# Altium integrated library power_regulators.IntLib: 7 symbols
Pins are listed as number, name and electrical type; pins without a type are passive.

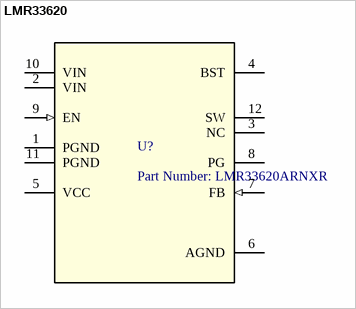
[diagram p0: symbol LMR33620]

## LMR33620
designator U?, comment Part Number: LMR33620ARNXR
SIMPLE SWITCHER® 3.8V to 36V, 2A Synchronous Buck Converter With Ultra-Low EMI; Manufacturer: Texas Instruments; PartNumber: LMR33620ARNXR; RefDes: RefDes; TYPE: TYPE; Value: Value
footprint RNX12 (RNX0012B)
pins: 1 PGND (power), 2 VIN (power), 3 NC, 4 BST, 5 VCC (power), 6 AGND (power), 7 FB (in), 8 PG (oc), 9 EN (in), 10 VIN (power), 11 PGND (power), 12 SW (power)


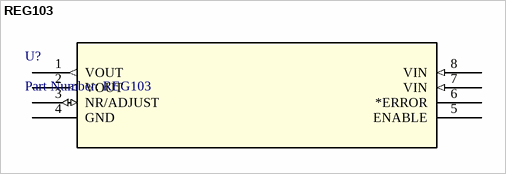
[diagram p1: symbol REG103]

## REG103
designator U?, comment Part Number: REG103
500-mA, 15-V, low-dropout voltage regulator with power good & enable; Manufacturer: Texas Instruments; Manufacturer_Part_Number: REG103UA-A/2K5; Built_By: EMA_UL_Team; Vendor: Texas Instruments; Copyright: Copyright (C) 2018 Accelerated Designs. All rights reserved; RefDes: RefDes; Type: DEV; Value: Value; ComponentLink1Description: Product Page; ComponentLink1URL: https://www.ti.com/product/REG103
footprint D8
footprint D8-L
footprint D8-M
pins: 1 VOUT (out), 2 VOUT (out), 3 NR/ADJUST (io), 4 GND (power), 5 ENABLE, 6 *ERROR, 7 VIN (in), 8 VIN (in)


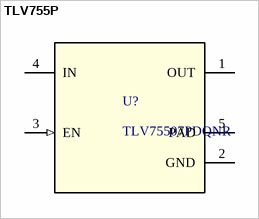
[diagram p2: symbol TLV755P]

## TLV755P
designator U?, comment TLV75507PDQNR
Fixed output, 500-mA, high-PSRR, low-IQ, low-dropout voltage regulator with enable; PartNumber: TLV75533PDQNR; Manufacturer: Texas Instruments; RefDes: RefDes; Type: DEV; Value: Value; Copyright: Copyright (C) 2018 Accelerated Designs. All rights reserved; ComponentLink1Description: Product Page; ComponentLink1URL: https://www.ti.com/product/TLV755P
footprint DQN0004A
pins: 1 OUT (power), 2 GND (power), 3 EN (in), 4 IN (power), 5 PAD


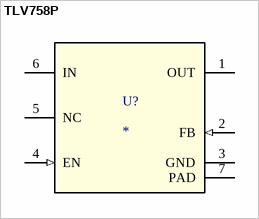
[diagram p3: symbol TLV758P]

## TLV758P
designator U?
500-mA, low-IQ, high-accuracy, adjustable ultra-low-dropout voltage regulator with enable; PartNumber: TLV75801PDRVR; Manufacturer: Texas Instruments; RefDes: RefDes; TYPE: TYPE; Value: Value; ComponentLink1Description: Product page; ComponentLink1URL: https://www.ti.com/product/TLV758P
footprint DRV_6A (DRV0006A)
footprint DRV_6A_NO_VIA (DRV0006A)
pins: 1 OUT (power), 2 FB (in), 3 GND (power), 4 EN (in), 5 NC, 6 IN (power), 7 PAD (power)


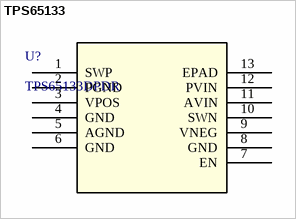
[diagram p4: symbol TPS65133]

## TPS65133
designator U?, comment TPS65133DPDR
Split-Rail Converter, ±5V, 250mA Dual Output Power Supply; Vendor: Texas Instruments; Built_By: EMA_Molly; SourceLibrary: TI_2019-05-24; Manufacturer_Part_Number: TPS65133DPDR; Copyright: Copyright (C) 2018 Accelerated Designs. All rights reserved; RefDes: RefDes; Type: DEV; ComponentLink1Description: Product Page; ComponentLink1URL: https://www.ti.com/product/TPS65133
footprint DPD12_TEX
pins: 1 SWP, 2 PGND, 3 VPOS, 4 GND, 5 AGND, 6 GND, 7 EN, 8 GND, 9 VNEG, 10 SWN, 11 AVIN, 12 PVIN, 13 EPAD


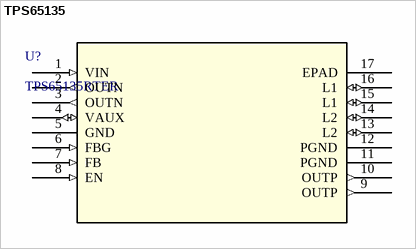
[diagram p5: symbol TPS65135]

## TPS65135
designator U?, comment TPS65135RTER
Single-Inductor,Multiple-Output(SIMO)Regulator; Vendor: Texas Instruments; PACKAGE_DESIGNATOR: RTE; PIN_COUNT: 16; FAMILY_NAME: LCD/OLED DISPLAY BIAS SOLUTIONS; INDUSTRY_STD_PKG_TYPE: WQFN; Manufacturer_Part_Number: TPS65135RTER; GENERIC_PART_NUMBER: TPS65135; Datasheet_URL: http://www.ti.com/lit/gpn/TPS65135; Manufacturer: Texas Instruments; Copyright: Copyright (C) 2018 Accelerated Designs. All rights reserved; RefDes: RefDes; Type: Type; ComponentLink1Description: Product Page; ComponentLink1URL: https://www.ti.com/product/TPS65133
footprint RTE16_1P7X1P7
pins: 1 VIN (in), 2 OUTN (out), 3 OUTN (out), 4 VAUX (io), 5 GND (power), 6 FBG (in), 7 FB (in), 8 EN (in), 9 OUTP (out), 10 OUTP (out), 11 PGND (power), 12 PGND (power), 13 L2 (io), 14 L2 (io), 15 L1 (io), 16 L1 (io), 17 EPAD


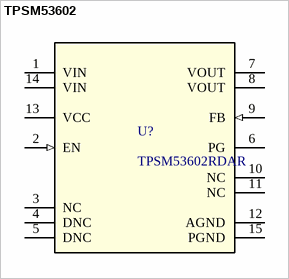
[diagram p6: symbol TPSM53602]

## TPSM53602
designator U?, comment TPSM53602RDAR
36-V, 2-A step-down power module in small 5.5 x 5 x 4-mm Enhanced HotRod™ QFN with simple footprint; Manufacturer: Texas Instruments; PartNumber: TPSM53602RDAR; RefDes: RefDes; Type: DEV; Value: Value; Copyright: Copyright (C) 2018 Accelerated Designs. All rights reserved; ComponentLink1Description: Product Page; ComponentLink1URL: https://www.ti.com/product/TPSM53602
footprint RDA0015A
pins: 1 VIN (power), 2 EN (in), 3 NC, 4 DNC, 5 DNC, 6 PG (oc), 7 VOUT (power), 8 VOUT (power), 9 FB (in), 10 NC, 11 NC, 12 AGND (power), 13 VCC (power), 14 VIN (power), 15 PGND (power)